# Altium footprint library MergenElektronik_Logics_Buffers.PcbLib: 2 footprints
Each footprint in its own frame and in the unit in brackets; x right, y up, seen from the top. Pads: shape width x height; smd on the part's side, far side on the other; paste and mask are expansions set on the pad; w line width, h text height; cw(c..) or ccw(c..) is an arc to the next point about the centre after c.
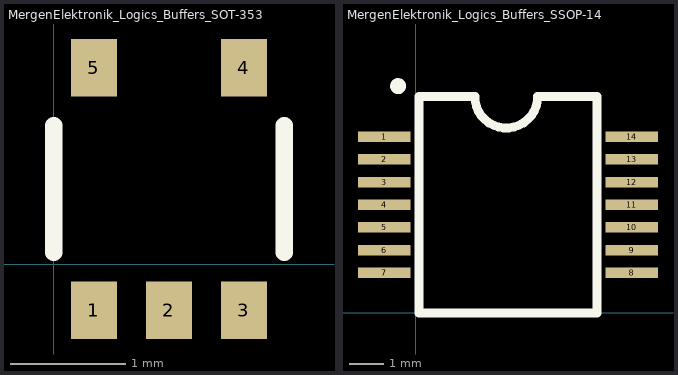
[diagram p0: the footprints below, top view; thin cyan lines are the x and y axes]

## MergenElektronik_Logics_Buffers_SOT-353 [mm] "SOT-353"
pads (5):
  rect 0.4x0.5 smd: 1(0.35,-0.4) 2(1,-0.4) 3(1.65,-0.4) 4(1.65,1.7) 5(0.35,1.7)
Top Overlay:
  lines w0.15: 0,0.1 0,1.2 ; 2,0.1 2,1.2
3D body: height 0.92, standoff 0.02, extent 0.017,-0.5 1.983,1.7

## MergenElektronik_Logics_Buffers_SSOP-14 [mm] "SSOP-14"
pads (14):
  rect 1.5x0.3 smd: 1(-0.9,5.05) 2(-0.9,4.4) 3(-0.9,3.75) 4(-0.9,3.1) 5(-0.9,2.45) 6(-0.9,1.8) 7(-0.9,1.15) 8(6.2,1.15) 9(6.2,1.8) 10(6.2,2.45) 11(6.2,3.1) 12(6.2,3.75) 13(6.2,4.4) 14(6.2,5.05)
Top Overlay:
  circle w0.254: c-0.5,6.5 r0.1
  lines w0.254: 0.1,0 0.1,6.2 1.7,6.2 ccw(c2.6,6.2) 3.5,6.2 5.2,6.2 5.2,0 0.1,0
3D body: height 2.1, standoff 0, extent -1.2,0 6.6,6.2